# Altium footprint library Cypss5131_CY4603.PcbLib: 41 footprints (part 2 of 3)
Each footprint in its own frame and in the unit in brackets; x right, y up, seen from the top. Pads: shape width x height; smd on the part's side, far side on the other; paste and mask are expansions set on the pad; w line width, h text height; cw(c..) or ccw(c..) is an arc to the next point about the centre after c.
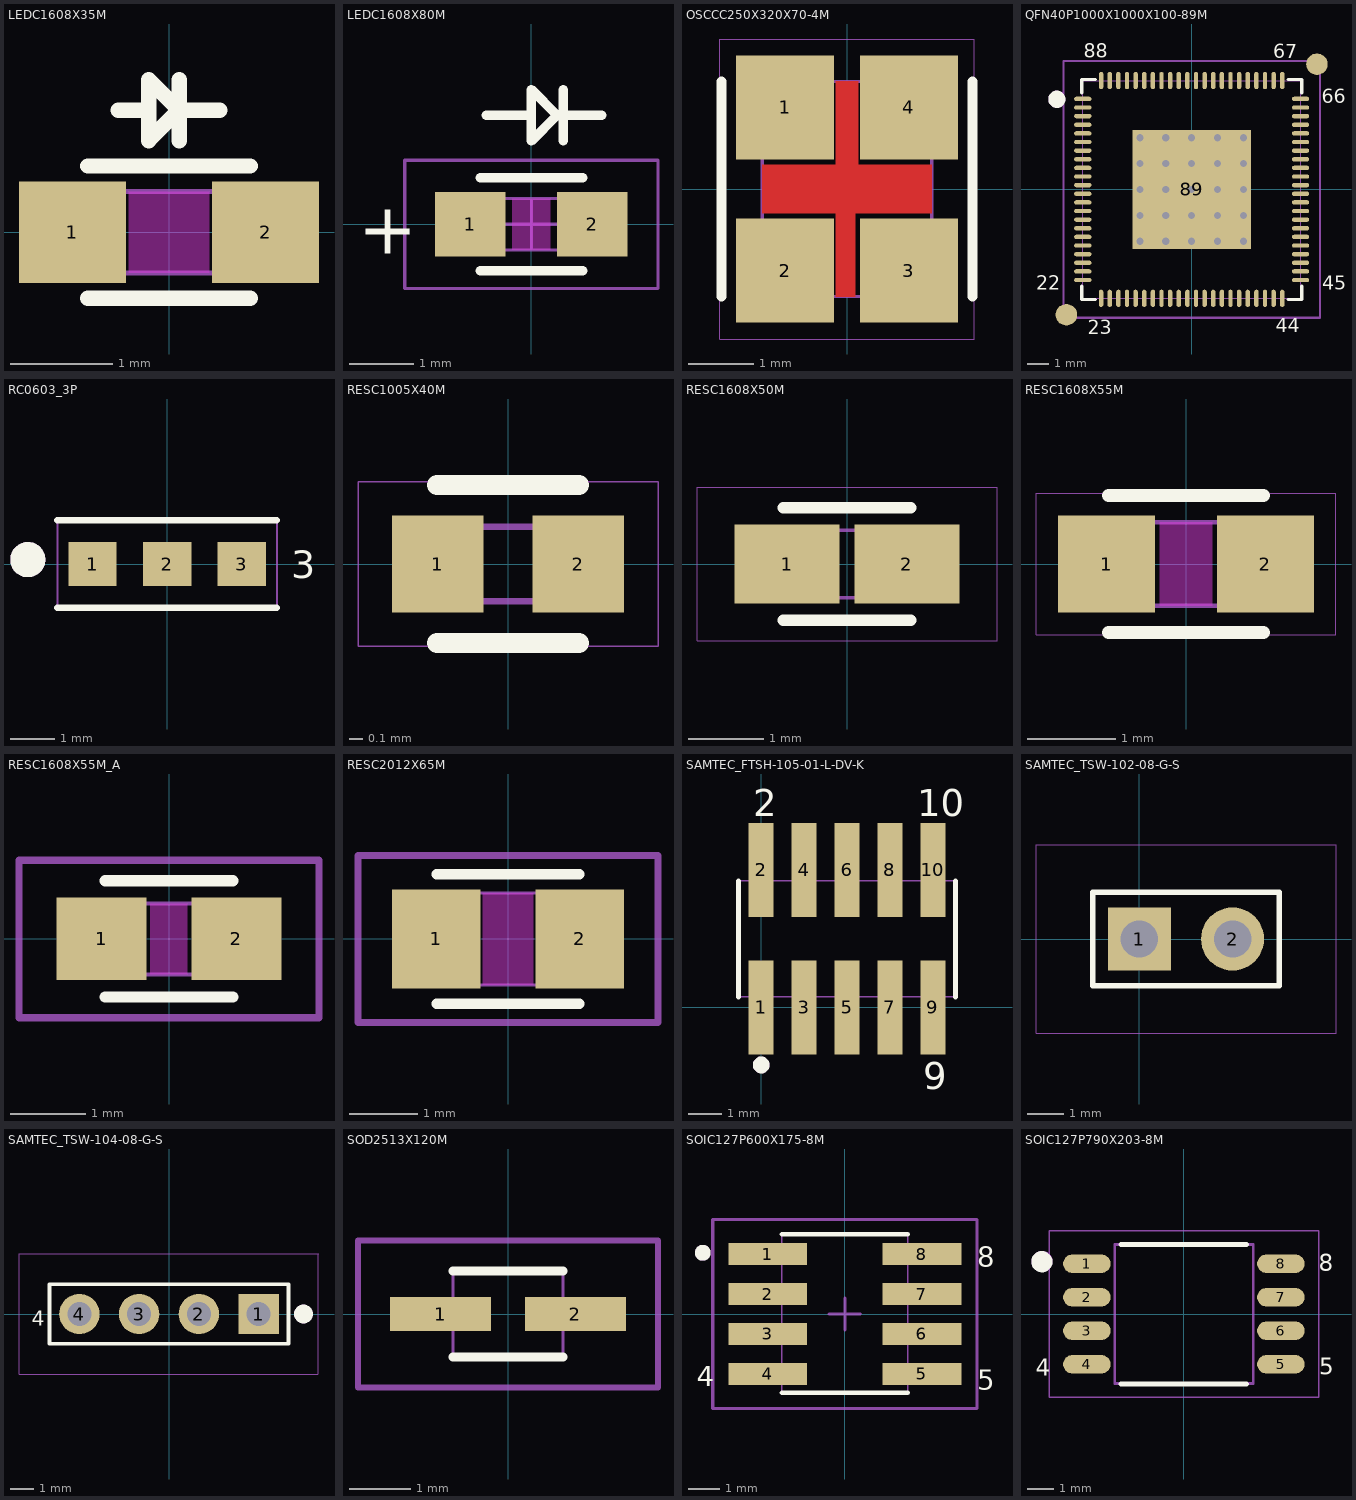
[diagram p1: the footprints below, top view; thin cyan lines are the x and y axes]

## LEDC1608X35M [mm]
height 0.35
pads (2):
  rect 1.05x1 smd mask+0: 1(-0.95,0) 2(0.95,0)
Top Layer keep-out:
  rectangle: -0.4,-0.4 0.4,0.4
Top Overlay:
  lines w0.15: -0.8,-0.65 0.8,-0.65 ; -0.8,0.65 0.8,0.65 ; -0.5,1.2 -0.2,1.2 ; 0.1,0.9 0.1,1.5 ; 0.5,1.2 0.1,1.2 ; 0.1,1.2 -0.2,0.9 -0.2,1.5 0.1,1.2
Mechanical 13:
  lines w0.05: -0.5,1.2 -0.2,1.2 ; 0.1,0.9 0.1,1.5 ; 0.5,1.2 0.1,1.2 ; 0.55,-0.4 0.55,0.4 ; 0.1,1.2 -0.2,0.9 -0.2,1.5 0.1,1.2 ; -0.8,-0.4 -0.8,0.4 0.8,0.4 0.8,-0.4 -0.8,-0.4
Mechanical 14:
  text "R105_100" at -2.4,-1.8 h0.64
  text "LEDC1608X35M" at -3.5,1.9 h0.64
3D body: height 0.35, standoff 0, extent -0.799,-0.4 0.8,0.4

## LEDC1608X80M [mm]
height 0.8
pads (2):
  rect 1.1x1 smd mask+0: 1(-0.95,0) 2(0.95,0)
Top Layer keep-out:
  rectangle: -0.3,-0.4 0.3,0.4
Top Overlay:
  lines w0.15: -0.8,-0.725 0.8,-0.725 ; -0.8,0.725 0.8,0.725 ; -0.7,1.7 0,1.7 ; 0.5,1.3 0.5,2.1 ; 1.1,1.7 0.4,1.7 ; 0,2.1 0,2.1 ; 0,2.1 0.4,1.7 ; 0,2.1 0,1.3 0.4,1.7
  text "+" at -2.705,-0.463 h0.8
  text ".Designator" at -3.7,3.9 h0.8
Mechanical 13:
  lines w0.05: -0.8,-0.4 0.8,-0.4 0.8,0.4 -0.8,0.4 -0.8,-0.4
  text "+" at -2.705,-0.463 h0.8
  text ".Designator" at -4.003,-0.148 h0.8
Mechanical 14:
  text "LEDC1608X80M" at -4.572,2.655 h0.8
  text "R110_100" at -2.851,-2.936 h0.8
Mechanical 15:
  lines w0.05: -0.4,0 0.4,0 ; 0,-0.4 0,0.4 ; -1.975,-1 1.975,-1 1.975,1 -1.975,1 -1.975,-1
3D body: height 0.8, standoff 0, extent -0.8,-0.4 0.8,0.4

## OSCCC250X320X70-4M [mm]
height 0.7
pads (4):
  rect 1.5x1.6 smd mask+0: 1(-0.95,1.25) 2(-0.95,-1.25) 3(0.95,-1.25) 4(0.95,1.25)
Top Layer:
  region: 0.175,1.65 0.175,0.375 1.3,0.375 1.3,-0.375 0.125,-0.375 0.125,-1.65 -0.175,-1.65 -0.175,-0.375 -1.3,-0.375 -1.3,0.375 -0.175,0.375 -0.175,1.65
Top Overlay:
  lines w0.15: -1.925,-1.65 -1.925,1.65 ; 1.925,-1.65 1.925,1.65
  text ".Designator" at -4.085,2.756 h0.8
Mechanical 13:
  lines w0.05: -1.3,-1.65 -1.3,1.65 1.3,1.65 1.3,-1.65 -1.3,-1.65
  text ".Designator" at -3.956,-0.152 h0.8
Mechanical 14:
  text "OSCCC250X320X70-4M" at -6.265,4.123 h0.8
  text "R150_160" at -3.016,-3.593 h0.8
Mechanical 15:
  lines w0.01: -1.95,-2.3 -1.95,2.3 1.95,2.3 1.95,-2.3 -1.95,-2.3
3D body: height 0.7, standoff 0, extent -1.325,-1.675 1.325,1.675

## QFN40P1000X1000X100-89M [mm] "QFN, 88-Leads, Body 10.1x10.1mm (max), Pitch 0.40mm, IPC Low Density"
height 1
pads (91):
  oval 0.8x0.2 smd mask+0: 1(-5.05,4.2) 2(-5.05,3.8) 3(-5.05,3.4) 4(-5.05,3) 5(-5.05,2.6) 6(-5.05,2.2) 7(-5.05,1.8) 8(-5.05,1.4) 9(-5.05,1) 10(-5.05,0.6) 11(-5.05,0.2) 12(-5.05,-0.2) 13(-5.05,-0.6) 14(-5.05,-1) 15(-5.05,-1.4) 16(-5.05,-1.8) 17(-5.05,-2.2) 18(-5.05,-2.6) 19(-5.05,-3) 20(-5.05,-3.4) 21(-5.05,-3.8) 22(-5.05,-4.2) 45(5.05,-4.2) 46(5.05,-3.8) 47(5.05,-3.4) 48(5.05,-3) 49(5.05,-2.6) 50(5.05,-2.2) 51(5.05,-1.8) 52(5.05,-1.4) 53(5.05,-1) 54(5.05,-0.6) 55(5.05,-0.2) 56(5.05,0.2) 57(5.05,0.6) 58(5.05,1) 59(5.05,1.4) 60(5.05,1.8) 61(5.05,2.2) 62(5.05,2.6) 63(5.05,3) 64(5.05,3.4) 65(5.05,3.8) 66(5.05,4.2)
  oval 0.2x0.8 smd mask+0: 23(-4.2,-5.05) 24(-3.8,-5.05) 25(-3.4,-5.05) 26(-3,-5.05) 27(-2.6,-5.05) 28(-2.2,-5.05) 29(-1.8,-5.05) 30(-1.4,-5.05) 31(-1,-5.05) 32(-0.6,-5.05) 33(-0.2,-5.05) 34(0.2,-5.05) 35(0.6,-5.05) 36(1,-5.05) 37(1.4,-5.05) 38(1.8,-5.05) 39(2.2,-5.05) 40(2.6,-5.05) 41(3,-5.05) 42(3.4,-5.05) 43(3.8,-5.05) 44(4.2,-5.05) 67(4.2,5.05) 68(3.8,5.05) 69(3.4,5.05) 70(3,5.05) 71(2.6,5.05) 72(2.2,5.05) 73(1.8,5.05) 74(1.4,5.05) 75(1,5.05) 76(0.6,5.05) 77(0.2,5.05) 78(-0.2,5.05) 79(-0.6,5.05) 80(-1,5.05) 81(-1.4,5.05) 82(-1.8,5.05) 83(-2.2,5.05) 84(-2.6,5.05) 85(-3,5.05) 86(-3.4,5.05) 87(-3.8,5.05) 88(-4.2,5.05)
  rect 5.5x5.5 smd mask+0: 89(0,0)
  round 1 smd mask+0.5: ""(-5.81,-5.81) ""(5.81,5.81)
via 2.4,-2.4 diameter 0.66 hole 0.33
via 1.2,-2.4 diameter 0.66 hole 0.33
via 0,-2.4 diameter 0.66 hole 0.33
via -1.2,-2.4 diameter 0.66 hole 0.33
via -2.4,-2.4 diameter 0.66 hole 0.33
via 2.4,-1.2 diameter 0.66 hole 0.33
via 1.2,-1.2 diameter 0.66 hole 0.33
via 0,-1.2 diameter 0.66 hole 0.33
via -1.2,-1.2 diameter 0.66 hole 0.33
via -2.4,-1.2 diameter 0.66 hole 0.33
via 2.4,0 diameter 0.66 hole 0.33
via 1.2,0 diameter 0.66 hole 0.33
via 0,0 diameter 0.66 hole 0.33
via -1.2,0 diameter 0.66 hole 0.33
via -2.4,0 diameter 0.66 hole 0.33
via 2.4,1.2 diameter 0.66 hole 0.33
via 1.2,1.2 diameter 0.66 hole 0.33
via 0,1.2 diameter 0.66 hole 0.33
via -1.2,1.2 diameter 0.66 hole 0.33
via -2.4,1.2 diameter 0.66 hole 0.33
via 2.4,2.4 diameter 0.66 hole 0.33
via 1.2,2.4 diameter 0.66 hole 0.33
via 0,2.4 diameter 0.66 hole 0.33
via -1.2,2.4 diameter 0.66 hole 0.33
via -2.4,2.4 diameter 0.66 hole 0.33
Top Overlay:
  circle w0.4: c-6.252,4.181 r0.2
  lines w0.15: -5.1,-4.475 -5.1,-5.1 -4.475,-5.1 ; -5.1,4.475 -5.1,5.1 -4.475,5.1 ; 4.475,-5.1 5.1,-5.1 5.1,-4.475 ; 4.475,5.1 5.1,5.1 5.1,4.475
  text "88" at -5.003,6.115 h0.64
  text "67" at 3.775,6.092 h0.64
  text "66" at 6.042,4.005 h0.64
  text "45" at 6.058,-4.646 h0.64
  text "44" at 3.892,-6.619 h0.64
  text "23" at -4.819,-6.707 h0.64
  text "22" at -7.22,-4.66 h0.64
  text ".Designator" at -3.931,7.075 h0.8
Mechanical 13:
  circle w0.4: c-6.252,4.187 r0.2
  lines w0.05: -5.05,-5.05 5.05,-5.05 5.05,5.05 -5.05,5.05 -5.05,-5.05
  text ".Designator" at -4.14,-0.317 h0.8
Mechanical 14:
  text "QFN40P1000X1000X100-89M" at -8.348,8.365 h0.8
  text "B80_20" at -2.081,-8.548 h0.8
Mechanical 15:
  lines w0.1: -0.5,0 0.5,0 ; 0,-0.5 0,0.5 ; -5.95,-5.95 5.95,-5.95 5.95,5.95 -5.95,5.95 -5.95,-5.95
3D body: height 1, standoff 0.05, extent -5.05,-5.05 5.05,5.05

## RC0603_3P [mm]
height 2.388
pads (3):
  rect 1.1x1 smd mask+0.079: 1(-1.7,0) 2(0,0) 3(1.7,0)
Top Overlay:
  circle w0.4: c-3.175,0.1 r0.2
  lines w0.15: -2.5,-1 2.5,-1 ; -2.5,1 2.5,1
  text ".Designator" at -2.5,2 h0.64
  text "3" at 2.825,-0.325 h0.64
Mechanical 13:
  circle w0.4: c-3.175,0.1 r0.2
  lines w0.05: -2.5,-1 -2.5,1 2.5,1 2.5,-1 -2.5,-1
  text ".Designator" at -2.5,0 h0.64
Mechanical 14:
  text "RC0603_3P" at -2.5,3 h0.64
3D body: height 0, standoff 0, extent -2.499,-0.999 2.499,0.999

## RESC1005X40M [mm]
height 0.4
pads (2):
  rect 0.68x0.72 smd mask+0: 1(-0.52,0) 2(0.52,0)
Top Overlay:
  lines w0.15: -0.525,-0.585 0.525,-0.585 ; -0.525,0.585 0.525,0.585
  text ".Designator" at -4.117,1.111 h0.8
Mechanical 13:
  lines w0.05: -0.525,-0.275 -0.525,0.275 0.525,0.275 0.525,-0.275 -0.525,-0.275
  text ".Designator" at -3.929,-2.074 h0.8
Mechanical 14:
  text "RESC1005X40M" at -4.558,2.35 h0.8
  text "R68_72" at -2.332,-1.954 h0.8
Mechanical 15:
  lines w0.01: -1.11,-0.61 -1.11,0.61 1.11,0.61 1.11,-0.61 -1.11,-0.61
3D body: height 0.4, standoff 0, extent -0.55,-0.3 0.55,0.3

## RESC1608X50M [mm] "Chip Resistor, 2-Leads, Body 1.5x0.8mm, IPC Low Density"
height 0.5
pads (2):
  rect 1.4x1.05 smd mask+0: 1(-0.8,0) 2(0.8,0)
Top Overlay:
  lines w0.15: -0.85,-0.75 0.85,-0.75 ; -0.85,0.75 0.85,0.75
  text ".Designator" at -3.98,1.71 h0.8
Mechanical 13:
  lines w0.05: -0.85,-0.45 0.85,-0.45 0.85,0.45 -0.85,0.45 -0.85,-0.45
  text ".Designator" at -4.146,-0.319 h0.8
Mechanical 14:
  text "RESC1608X50M" at -4.13,2.972 h0.8
  text "R105_140" at -2.942,-2.822 h0.8
Mechanical 15:
  lines w0.01: -2,-1.025 2,-1.025 2,1.025 -2,1.025 -2,-1.025
3D body: height 0.5, standoff 0, extent -0.85,-0.45 0.85,0.45

## RESC1608X55M [mm]
height 0.55
pads (2):
  rect 1.1x1.1 smd mask+0: 1(-0.9,0) 2(0.9,0)
Top Layer keep-out:
  rectangle: -0.3,-0.475 0.3,0.475
Top Overlay:
  lines w0.15: -0.875,-0.775 0.875,-0.775 ; -0.875,0.775 0.875,0.775
  text ".Designator" at -3.93,1.311 h0.8
Mechanical 13:
  lines w0.05: -0.875,-0.475 -0.875,0.475 0.875,0.475 0.875,-0.475 -0.875,-0.475
  text ".Designator" at -4.025,-0.209 h0.8
Mechanical 14:
  text "RESC1608X55M" at -4.531,2.562 h0.8
  text "S110" at -1.175,-1.998 h0.8
Mechanical 15:
  lines w0.01: -1.7,-0.8 -1.7,0.8 1.7,0.8 1.7,-0.8 -1.7,-0.8
3D body: height 0.55, standoff 0, extent -0.874,-0.474 0.874,0.474

## RESC1608X55M_A [mm]
height 0.55
pads (2):
  rect 1.2x1.1 smd mask+0: 1(-0.9,0) 2(0.9,0)
Top Layer keep-out:
  rectangle: -0.25,-0.475 0.25,0.475
Top Overlay:
  lines w0.15: -0.85,-0.775 0.85,-0.775 ; -0.85,0.775 0.85,0.775
  text ".Designator" at -4.086,1.532 h0.8
Mechanical 13:
  lines w0.05: -0.85,-0.475 0.85,-0.475 0.85,0.475 -0.85,0.475 -0.85,-0.475
  text ".Designator" at -4.122,-0.16 h0.8
Mechanical 14:
  text "R120_110" at -2.781,-2.431 h0.8
  text "RESC1608X55M_A" at -5.021,2.642 h0.8
Mechanical 15:
  lines w0.1: -2,-1.05 2,-1.05 2,1.05 -2,1.05 -2,-1.05
3D body: height 0.55, standoff 0, extent -0.85,-0.475 0.85,0.475

## RESC2012X65M [mm]
height 0.65
pads (2):
  rect 1.3x1.45 smd mask+0: 1(-1.05,0) 2(1.05,0)
Top Layer keep-out:
  rectangle: -0.375,-0.675 0.375,0.675
Top Overlay:
  lines w0.15: -1.05,-0.95 1.05,-0.95 ; -1.05,0.95 1.05,0.95
  text ".Designator" at -3.982,1.817 h0.8
Mechanical 13:
  lines w0.05: -1.05,-0.675 -1.05,0.675 1.05,0.675 1.05,-0.675 -1.05,-0.675
  text ".Designator" at -4.056,-0.095 h0.8
Mechanical 14:
  text "RESC2012X65M" at -4.8,2.975 h0.8
  text "R145_130" at -2.925,-2.5 h0.8
Mechanical 15:
  lines w0.1: -2.2,-1.225 -2.2,1.225 2.2,1.225 2.2,-1.225 -2.2,-1.225
3D body: height 0.65, standoff 0, extent -1.05,-0.675 1.05,0.675

## SAMTEC_FTSH-105-01-L-DV-K [mm]
height 5.715
pads (10):
  rect 0.74x2.79 smd mask+0: 1(0,0) 2(0,4.07) 3(1.27,0) 4(1.27,4.07) 5(2.54,0) 6(2.54,4.07) 7(3.81,0) 8(3.81,4.07) 9(5.08,0) 10(5.08,4.07)
Top Overlay:
  circle w0.25: c0.002,-1.702 r0.125
  lines w0.152: -0.673,0.318 -0.673,3.746 ; 5.753,0.318 5.753,3.746
  text ".Designator" at -1.346,6.782 h0.8
  text "2" at -0.229,5.664 h0.8
  text "9" at 4.801,-2.413 h0.8
  text "10" at 4.623,5.664 h0.8
Mechanical 13:
  circle w0.25: c0.002,-1.702 r0.125
  lines w0.051: -0.673,0.318 5.753,0.318 5.753,3.746 -0.673,3.746 -0.673,0.318
  text ".Designator" at -1.595,1.916 h0.8
Mechanical 14:
  text "R74_279" at -0.178,-3.531 h0.8
  text "SAMTEC_FTSH-105-01-L-DV-K" at -6.401,8.077 h0.8
3D body: height 5.71, standoff 0, extent -0.673,0.318 5.753,3.746

## SAMTEC_TSW-102-08-G-S [mm]
height 8.382
pads (2):
  rect 1.72x1.72 / inner round 1.72 / far side rect 1.72x1.72 hole 1.02 mask+0: 1(0,0)
  round 1.72 hole 1.02 mask+0: 2(2.54,0)
Top Overlay:
  lines w0.152: -1.27,-1.27 -1.27,1.27 3.81,1.27 3.81,-1.27 -1.27,-1.27
  text ".Designator" at -2.624,2.948 h0.8
Mechanical 13:
  lines w0.051: -1.27,-1.27 -1.27,1.27 3.81,1.27 3.81,-1.27 -1.27,-1.27
  text ".Designator" at -2.967,-0.239 h0.8
Mechanical 14:
  text "S172H102" at -1.161,-4.911 h0.8
  text "C172H102" at -1.159,-3.674 h0.8
  text "SAMTEC_TSW-102-08-G-S" at -5.909,4.204 h0.8
Mechanical 15:
  lines w0.025: -2.819,-2.565 5.359,-2.565 5.359,2.565 -2.819,2.565 -2.819,-2.565
3D body: height 8.38, standoff 0, extent -1.295,-1.295 3.835,1.295

## SAMTEC_TSW-104-08-G-S [mm]
height 8.38
pads (4):
  rect 1.72x1.72 hole 1.02 mask+0: 1(3.81,0)
  round 1.72 hole 1.02 mask+0: 2(1.27,0) 3(-1.27,0) 4(-3.81,0)
Top Overlay:
  circle w0.4: c5.715,0 r0.2
  lines w0.152: -5.08,-1.27 -5.08,1.27 5.08,1.27 5.08,-1.27 -5.08,-1.27
  text "4" at -5.842,-0.508 h0.64
  text ".Designator" at -3.048,1.651 h0.64
Mechanical 13:
  circle w0.4: c5.715,0 r0.2
  lines w0.051: -5.08,-1.27 5.08,-1.27 5.08,1.27 -5.08,1.27 -5.08,-1.27
  text ".Designator" at -3.048,-0.381 h0.64
Mechanical 14:
  text "SAMTEC_TSW-104-08-G-S" at -6.985,2.921 h0.64
Mechanical 15:
  lines w0.051: -6.375,-2.565 -6.375,2.565 6.375,2.565 6.35,2.54 6.35,-2.54 6.325,-2.565 -6.375,-2.565
Mechanical 20:
  text "SAMTEC_TSW-104-08-G-S" at -6.745,4.239 h0.64
  text "S172H102" at -2.286,-5.334 h0.64
  text "C172H102" at -2.286,-4.064 h0.64
3D body: height 8.38, standoff 0, extent -5.105,-1.295 5.105,1.295

## SOD2513X120M [mm] "SOIC, 2-Leads, Body 1.4x1.8mm (max), Pitch 1.27mm, IPC Low Density"
height 1.2
pads (2):
  rect 1.65x0.55 smd mask+0: 1(-1.1,0) 2(1.1,0)
Top Overlay:
  lines w0.15: -0.9,-0.7 0.9,-0.7 ; -0.9,0.7 0.9,0.7
  text ".Designator" at -3.1,1.6 h0.64
Mechanical 13:
  lines w0.05: -0.9,-0.7 0.9,-0.7 0.9,0.7 -0.9,0.7 -0.9,-0.7
  text ".Designator" at -3.1,-0.2 h0.64
Mechanical 14:
  text "SOD2513X120M" at -3.6,3 h0.64
Mechanical 15:
  lines w0.1: -2.45,-1.2 2.45,-1.2 2.45,1.2 -2.45,1.2 -2.45,-1.2
3D body: height 1.2, standoff 0.1, extent -0.9,-0.7 0.9,0.7

## SOIC127P600X175-8M [mm] "SOIC, 8-Leads, Body 5.0x4.0mm (max), Pitch 1.27mm, IPC Low Density"
height 1.75
pads (8):
  rect 2.5x0.7 smd mask+0: 1(-2.45,1.905) 2(-2.45,0.635) 3(-2.45,-0.635) 4(-2.45,-1.905) 5(2.45,-1.905) 6(2.45,-0.635) 7(2.45,0.635) 8(2.45,1.905)
Top Overlay:
  circle w0.25: c-4.516,1.945 r0.125
  lines w0.15: -2,-2.5 2,-2.5 ; -2,2.532 2,2.532
  text "8" at 4.2,1.5 h0.64
  text "5" at 4.2,-2.4 h0.64
  text "4" at -4.7,-2.3 h0.64
  text ".Designator" at -3.865,3.628 h0.8
Mechanical 13:
  circle w0.25: c-4.516,1.946 r0.125
  lines w0.05: -2,-2.5 -2,2.5 2,2.5 2,-2.5 -2,-2.5
  text ".Designator" at -3.7,-0.2 h0.8
Mechanical 14:
  text "R250_70" at -2.893,-4.166 h0.8
  text "SOIC127P600X175-8M" at -6.556,4.864 h0.8
Mechanical 15:
  lines w0.1: -0.5,0 0.5,0 ; 0,-0.5 0,0.5 ; -4.2,-3 -4.2,3 4.2,3 4.2,-3 -4.2,-3
3D body: height 1.75, standoff 0.1, extent -2,-2.5 2,2.5

## SOIC127P790X203-8M [mm] "SOIC, 8-Leads, Body 5.3x5.3mm (max), Pitch 1.27mm, IPC Low Density"
height 2.03
pads (8):
  oval 1.8x0.7 smd mask+0: 1(-3.675,1.905) 2(-3.675,0.635) 3(-3.675,-0.635) 4(-3.675,-1.905) 5(3.675,-1.905) 6(3.675,-0.635) 7(3.675,0.635) 8(3.675,1.905)
Top Overlay:
  circle w0.4: c-5.38,1.981 r0.2
  lines w0.2: -2.375,-2.65 2.375,-2.65 ; -2.375,2.63 2.375,2.63
  text ".Designator" at -3.277,3.683 h0.64
  text "4" at -5.601,-2.337 h0.64
  text "5" at 5.126,-2.305 h0.64
  text "8" at 5.111,1.628 h0.64
Mechanical 13:
  circle w0.4: c-5.373,1.988 r0.2
  lines w0.1: -2.625,-2.63 -2.625,2.63 2.625,2.63 2.625,-2.63 -2.625,-2.63
  text ".Designator" at -2.886,-0.261 h0.64
Mechanical 14:
  text "SOIC127P790X203-8M" at -5.08,4.953 h0.64
  text "B70_180" at -2.445,-4.893 h0.64
Mechanical 15:
  lines w0.05: -5.1,-3.15 -5.1,3.15 5.1,3.15 5.1,-3.15 -5.1,-3.15
3D body: height 2.03, standoff 0.15, extent -2.625,-2.63 2.625,2.63